# Altium schematic symbol library Lib_referencia.SchLib: 18 symbols
Pins are listed as number, name and electrical type; pins without a type are passive.

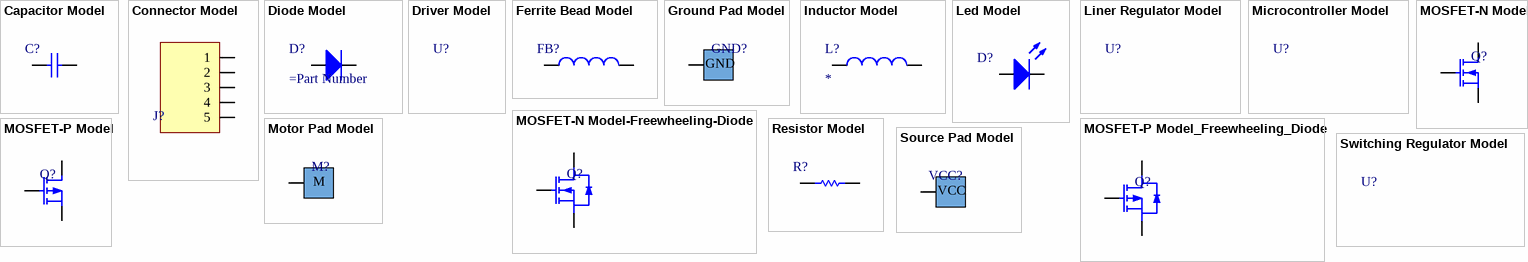
[diagram p0: symbols Capacitor Model to Switching Regulator Model]

## Capacitor Model
designator C?
CAP CER 1UF 25V X7R 0603; ComponentLink1Description: Mouser Link; ComponentLink1URL: *; ComponentLink2Description: Datasheet; ComponentLink2URL: *
footprint C0603
pins: 1, 2

## Connector Model
designator J?
CONN HEADER VERT 10POS 2.54MM; ComponentLink1Description: Mouser Link; ComponentLink1URL: *; ComponentLink2Description: Datasheet; ComponentLink2URL: *
pins: 1, 2, 3, 4, 5

## Diode Model
designator D?
DIODE GEN PURP 100V 300MA SOD123; Power Dissipation: *; Speed: *; Capacitance @ Vr, F: *; ComponentLink1Description: Mouser Link; ComponentLink1URL: *; ComponentLink2Description: Datasheet; ComponentLink2URL: *
pins: A, C

## Driver Model
designator U?
IC MTR DRV "Voltage - Load" "Current Output" "Package / Case"; Category: Driver; Price: 1="value", 10="value", 100="value" (USD); Logic Voltage - VIL, VIH: *; Current - Peak Output (Source, Sink): *; Rise / Fall Time (Typ): *; Power Dissipation: *; Suplier Part Number 1: *; Logic (IN-SD/High Low): *; ComponentLink1Description: Mouser Link; ComponentLink1URL: *; ComponentLink2Description: Datasheet; ComponentLink2URL: *

## Ferrite Bead Model
designator FB?
FERRITE BEADS 220 OHM 25% 0.450A 0603; ComponentLink1Description: Mouser Link; ComponentLink1URL: *; ComponentLink2Description: Datasheet; ComponentLink2URL: *
pins: 1, 2

## Ground Pad Model
designator GND?, comment Ground Pad  (value not drawn)
GND PAD CATEGORY
pins: A GND

## Inductor Model
designator L?
IND FIXED 1.4nh 1.1A 40MOHM; Category: *; Current Rating (Amps): *; DC Resistance (DCR): *; Frequency - Self Resonant: *; Inductance Frequency - Test: *; Library Ref: *; Manufacturer: *; Material - Core: *; Operating Temperature: *; Package / Case: *; Packaging: *; Part Number: *; Price: *; Q @ Freq: *; Shielding: *; Size / Dimension: *; Supplier 1: *; Supplier Part Number 1: *; ToleranceParameter 21: *; Type: *; Value: *; Library Control - Checked Footprint: *; Library Control - Last Project that Used: *; Library Control - Last Update: *; Library Control - Person that Checked Footprint: *; Library Control - Person that Checked Schematic: *; Library Control - Person that did the Last Update Footprint: *; Library Control - Person that did the Last Update Schematic: *; ComponentLink1Description: Mouser Link; ComponentLink1URL: *; ComponentLink2Description: Datasheet; ComponentLink2URL: *
pins: 1, 2

## Led Model
designator D?
LED 0.072W RED 60MCD 0805; ComponentLink1Description: Mouser Link; ComponentLink1URL: *; ComponentLink2Description: Datasheet; ComponentLink2URL: *
pins: A, C

## Liner Regulator Model
designator U?
IC REG LINEAR 3.3V 1A SOT-23-5; Current - Output: *; Power Dissipation: *; Voltage - Output (Max): *; ComponentLink1Description: Mouser Link; ComponentLink1URL: *; ComponentLink2Description: Datasheet; ComponentLink2URL: *

## Microcontroller Model
designator U?
IC MCU 32BIT 1MB FLASH ARM-M4 168MHZ LQFP-100; ComponentLink1Description: Mouser Link; ComponentLink1URL: *; ComponentLink2Description: Datasheet; ComponentLink2URL: *

## MOSFET-N Model
designator Q?
MOSFET N-CH 30V 5A SOT-23-3; Power Dissipation (Max): *; Drive Voltage (Max Rds On, Min Rds On): *; Vgs (Max): *; Rise / Fall Time (Typ): *; ComponentLink1Description: Datasheet; ComponentLink1URL: *; ComponentLink2Description: Mouser; ComponentLink2URL: *
pins: D, G, S

## MOSFET-N Model-Freewheeling-Diode
designator Q?
MOSFET N-CH 30V 5A SOT-23-3; Power Dissipation (Max): *; Drive Voltage (Max Rds On, Min Rds On): *; Vgs (Max): *; Rise / Fall Time (Typ): *; ComponentLink1Description: Datasheet; ComponentLink1URL: *; ComponentLink2Description: Mouser; ComponentLink2URL: *
pins: D, G, S

## MOSFET-P Model
designator Q?
MOSFET P-CH 20V 11A SO-8; Power Dissipation (Max): *; Drive Voltage (Max Rds On, Min Rds On): *; Vgs (Max): *; Rise / Fall Time (Typ): *; ComponentLink1Description: Datasheet; ComponentLink1URL: *; ComponentLink2Description: Mouser; ComponentLink2URL: *
pins: D, G, S

## MOSFET-P Model_Freewheeling_Diode
designator Q?
MOSFET P-CH 20V 11A SO-8; Power Dissipation (Max): *; Drive Voltage (Max Rds On, Min Rds On): *; Vgs (Max): *; Rise / Fall Time (Typ): *; ComponentLink1Description: Datasheet; ComponentLink1URL: *; ComponentLink2Description: Mouser; ComponentLink2URL: *
pins: D, G, S

## Motor Pad Model
designator M?, comment Motor Pad  (value not drawn)
MOTOR PAD CATEGORY
pins: M

## Resistor Model
designator R?
RES SMD 1.05K OHM 0.1% 1/10W 0603
footprint RESISTOR_0603
pins: 1, 2

## Source Pad Model
designator VCC?, comment Source Pad  (value not drawn)
VCC PAD CATEGORY
pins: A VCC

## Switching Regulator Model
designator U?
IC REG SWITCHING 5V 2.5A 13.1W; Voltage - Input (Min): *; Voltage - Output (Max): *; Current - Output: *; Frequency - Switching: *; Current - Operating Supply: *; ComponentLink1Description: Mouser Link; ComponentLink1URL: *; ComponentLink2Description: Datasheet; ComponentLink2URL: *